# Altium footprint library IntegradedChips.PcbLib: 75 footprints (part 2 of 5)
Each footprint in its own frame and in the unit in brackets; x right, y up, seen from the top. Pads: shape width x height; smd on the part's side, far side on the other; paste and mask are expansions set on the pad; w line width, h text height; cw(c..) or ccw(c..) is an arc to the next point about the centre after c.
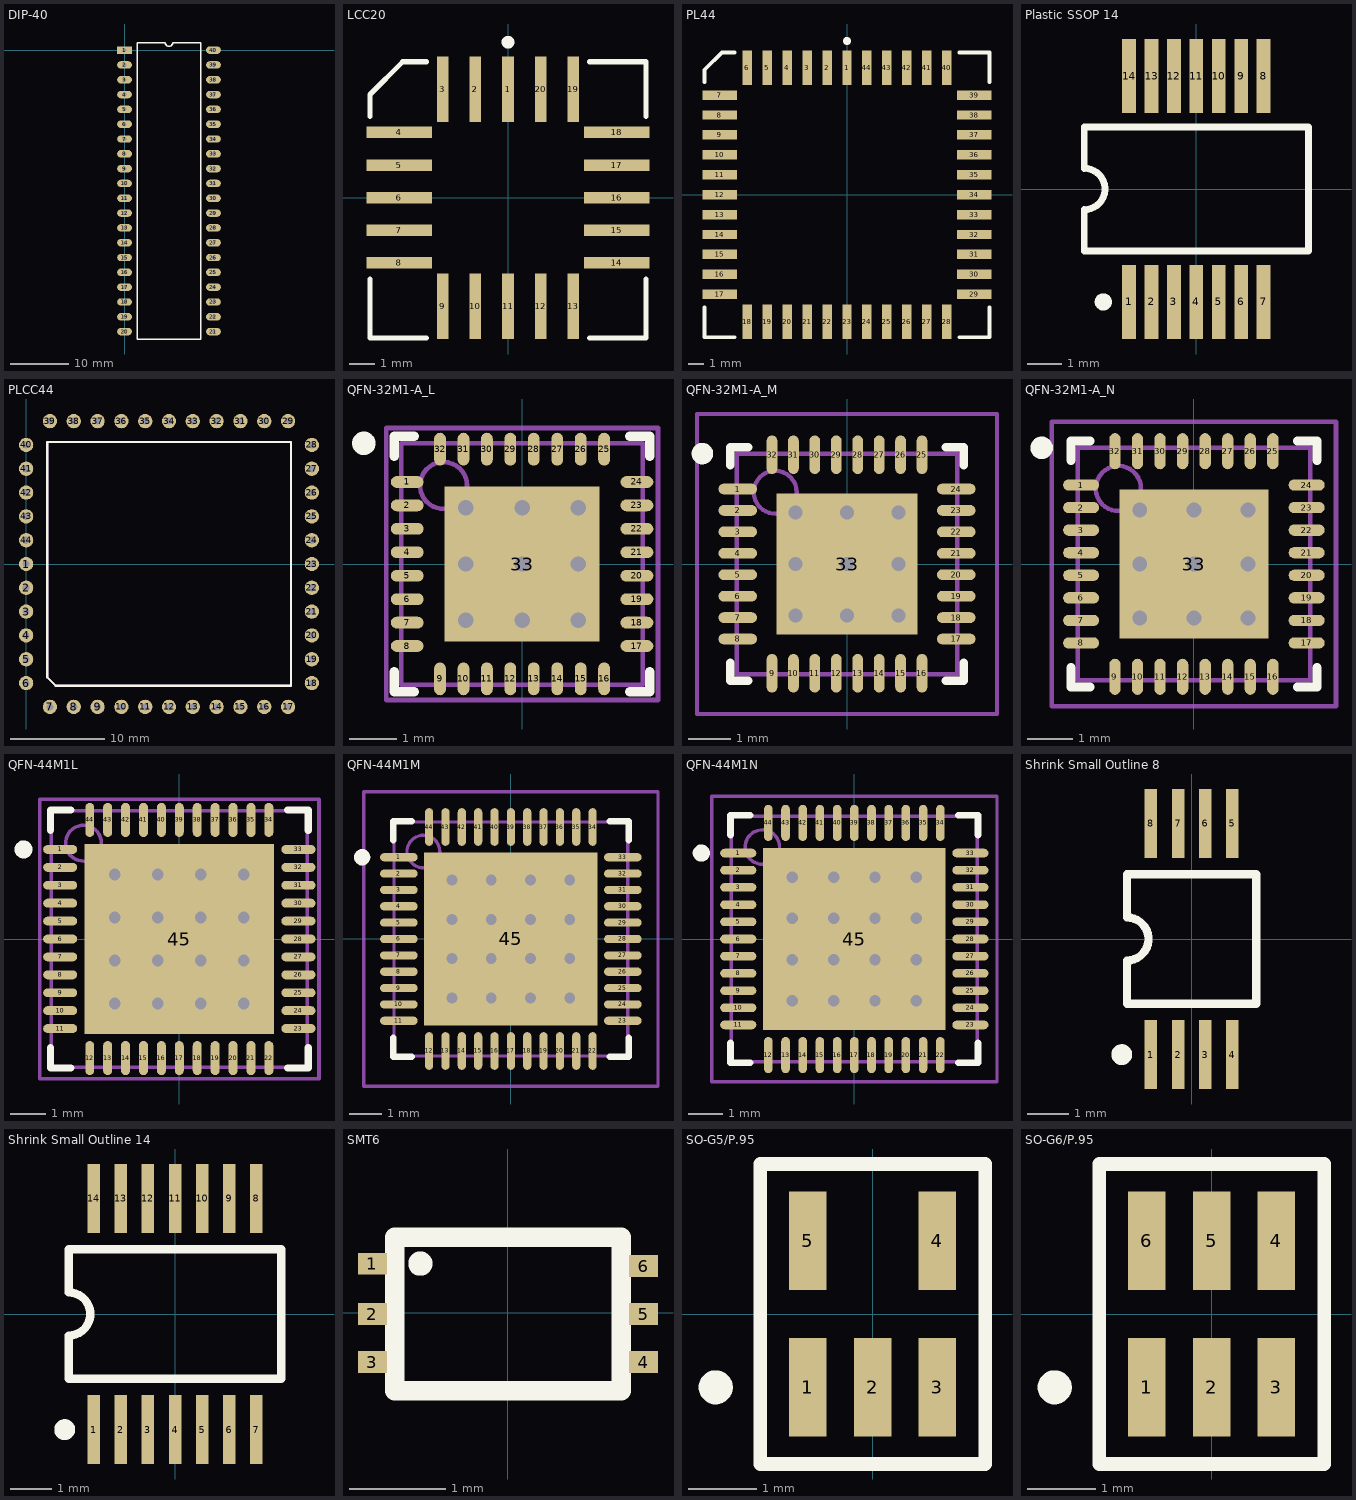
[diagram p1: the footprints below, top view; thin cyan lines are the x and y axes]

## DIP-40 [mm]
pads (40):
  rect 2.54x1.27 hole 0.635: 1(0,0)
  oval 2.54x1.27 hole 0.635: 2(0,-2.54) 3(0,-5.08) 4(0,-7.62) 5(0,-10.16) 6(0,-12.7) 7(0,-15.24) 8(0,-17.78) 9(0,-20.32) 10(0,-22.86) 11(0,-25.4) 12(0,-27.94) 13(0,-30.48) 14(0,-33.02) 15(0,-35.56) 16(0,-38.1) 17(0,-40.64) 18(0,-43.18) 19(0,-45.72) 20(0,-48.26) 21(15.24,-48.26) 22(15.24,-45.72) 23(15.24,-43.18) 24(15.24,-40.64) 25(15.24,-38.1) 26(15.24,-35.56) 27(15.24,-33.02) 28(15.24,-30.48) 29(15.24,-27.94) 30(15.24,-25.4) 31(15.24,-22.86) 32(15.24,-20.32) 33(15.24,-17.78) 34(15.24,-15.24) 35(15.24,-12.7) 36(15.24,-10.16) 37(15.24,-7.62) 38(15.24,-5.08) 39(15.24,-2.54) 40(15.24,0)
Top Overlay:
  lines w0.254: 2.159,-49.53 13.081,-49.53 13.081,1.27 8.255,1.27 cw(c7.62,1.27) 6.985,1.27 2.159,1.27 2.159,-49.53
3D body: height 4.3, standoff -2.68, extent 0.024,-50.53 15.724,2.27

## LCC20 [mm] "Leadless Chip Carrier; 20 Terminals; Body 8.9 x 8.9 mm"
height 2.03
pads (20):
  rect 0.45x2.55 smd: 1(0,4.225) 2(-1.27,4.225) 3(-2.54,4.225) 9(-2.54,-4.225) 10(-1.27,-4.225) 11(0,-4.225) 12(1.27,-4.225) 13(2.54,-4.225) 19(2.54,4.225) 20(1.27,4.225)
  rect 2.55x0.45 smd: 4(-4.225,2.54) 5(-4.225,1.27) 6(-4.225,0) 7(-4.225,-1.27) 8(-4.225,-2.54) 14(4.225,-2.54) 15(4.225,-1.27) 16(4.225,0) 17(4.225,1.27) 18(4.225,2.54)
Top Overlay:
  circle w0.25: c0,6.05 r0.125
  lines w0.2: -5.375,-3.165 -5.375,-5.463 -3.165,-5.463 ; -5.375,3.165 -5.375,4.012 -4.1,5.288 -3.165,5.288 ; 3.165,-5.463 5.375,-5.463 5.375,-3.165 ; 3.165,5.288 5.375,5.288 5.375,3.165

## PL44 [mm]
pads (44):
  rect 0.6x2.2 smd: 1(0,8.1) 2(-1.27,8.1) 3(-2.54,8.1) 4(-3.81,8.1) 5(-5.08,8.1) 6(-6.35,8.1) 18(-6.35,-8.1) 19(-5.08,-8.1) 20(-3.81,-8.1) 21(-2.54,-8.1) 22(-1.27,-8.1) 23(0,-8.1) 24(1.27,-8.1) 25(2.54,-8.1) 26(3.81,-8.1) 27(5.08,-8.1) 28(6.35,-8.1) 40(6.35,8.1) 41(5.08,8.1) 42(3.81,8.1) 43(2.54,8.1) 44(1.27,8.1)
  rect 2.2x0.6 smd: 7(-8.1,6.35) 8(-8.1,5.08) 9(-8.1,3.81) 10(-8.1,2.54) 11(-8.1,1.27) 12(-8.1,0) 13(-8.1,-1.27) 14(-8.1,-2.54) 15(-8.1,-3.81) 16(-8.1,-5.08) 17(-8.1,-6.35) 29(8.1,-6.35) 30(8.1,-5.08) 31(8.1,-3.81) 32(8.1,-2.54) 33(8.1,-1.27) 34(8.1,0) 35(8.1,1.27) 36(8.1,2.54) 37(8.1,3.81) 38(8.1,5.08) 39(8.1,6.35)
Top Overlay:
  circle w0.25: c0,9.8 r0.125
  lines w0.25: -9.075,-7.198 -9.075,-9.087 -7.185,-9.087 ; -9.075,7.172 -9.075,7.963 -7.975,9.063 -7.185,9.063 ; 7.185,-9.087 9.075,-9.087 9.075,-7.198 ; 7.185,9.063 9.075,9.063 9.075,7.172

## Plastic SSOP 14 [mm] "Plastic SSOP; 14 Leads; Body Width 5.3 mm; Pitch 0.65 mm"
height 2
pads (14):
  rect 0.4x2.15 smd: 1(-1.95,-3.275) 2(-1.3,-3.275) 3(-0.65,-3.275) 4(0,-3.275) 5(0.65,-3.275) 6(1.3,-3.275) 7(1.95,-3.275) 8(1.95,3.275) 9(1.3,3.275) 10(0.65,3.275) 11(0,3.275) 12(-0.65,3.275) 13(-1.3,3.275) 14(-1.95,3.275)
Top Overlay:
  circle w0.25: c-2.7,-3.275 r0.125
  lines w0.2: -3.25,-1.8 -3.25,-0.6 ccw(c-3.25,0) -3.25,0.6 -3.25,1.8 3.25,1.8 3.25,-1.8 -3.25,-1.8

## PLCC44 [mil]
height 173.23
pads (44):
  round 60 hole 30: 1(0,0) 2(0,-100) 3(0,-200) 4(0,-300) 5(0,-400) 6(0,-500) 7(100,-600) 8(200,-600) 9(300,-600) 10(400,-600) 11(500,-600) 12(600,-600) 13(700,-600) 14(800,-600) 15(900,-600) 16(1000,-600) 17(1100,-600) 18(1200,-500) 19(1200,-400) 20(1200,-300) 21(1200,-200) 22(1200,-100) 23(1200,0) 24(1200,100) 25(1200,200) 26(1200,300) 27(1200,400) 28(1200,500) 29(1100,600) 30(1000,600) 31(900,600) 32(800,600) 33(700,600) 34(600,600) 35(500,600) 36(400,600) 37(300,600) 38(200,600) 39(100,600) 40(0,500) 41(0,400) 42(0,300) 43(0,200) 44(0,100)
Top Overlay:
  lines w10: 88.61,-475.93 88.61,512.26 1112.24,512.26 1112.24,-511.36 124.05,-511.36 88.61,-475.93
Mechanical 1:
  lines w10: 88.61,-475.93 88.61,512.26 1112.24,512.26 1112.24,-511.36 124.05,-511.36 88.61,-475.93
3D body: height 173.23, standoff 39.37, extent 88.59,-511.38 1112.26,512.28

## QFN-32M1-A_L [mm] "QFN, 32-Leads, Body 5x5mm, Pitch 0.5mm, IPC High Density"
height 1
pads (33):
  oval 0.7x0.25 smd: 1(-2.45,1.75) 2(-2.45,1.25) 3(-2.45,0.75) 4(-2.45,0.25) 5(-2.45,-0.25) 6(-2.45,-0.75) 7(-2.45,-1.25) 8(-2.45,-1.75) 17(2.45,-1.75) 18(2.45,-1.25) 19(2.45,-0.75) 20(2.45,-0.25) 21(2.45,0.25) 22(2.45,0.75) 23(2.45,1.25) 24(2.45,1.75)
  oval 0.25x0.7 smd: 9(-1.75,-2.45) 10(-1.25,-2.45) 11(-0.75,-2.45) 12(-0.25,-2.45) 13(0.25,-2.45) 14(0.75,-2.45) 15(1.25,-2.45) 16(1.75,-2.45) 25(1.75,2.45) 26(1.25,2.45) 27(0.75,2.45) 28(0.25,2.45) 29(-0.25,2.45) 30(-0.75,2.45) 31(-1.25,2.45) 32(-1.75,2.45)
  rect 3.3x3.3 smd: 33(0,0)
via 1.2,-1.2 diameter 0.66 hole 0.33
via 0,-1.2 diameter 0.66 hole 0.33
via -1.2,-1.2 diameter 0.66 hole 0.33
via 1.2,0 diameter 0.66 hole 0.33
via 0,0 diameter 0.66 hole 0.33
via -1.2,0 diameter 0.66 hole 0.33
via 1.2,1.2 diameter 0.66 hole 0.33
via 0,1.2 diameter 0.66 hole 0.33
via -1.2,1.2 diameter 0.66 hole 0.33
Top Overlay:
  circle w0.25: c-3.375,2.575 r0.125
  lines w0.2: -2.725,-2.3 -2.725,-2.725 -2.3,-2.725 ; -2.725,2.3 -2.725,2.725 -2.3,2.725 ; 2.3,-2.725 2.725,-2.725 2.725,-2.3 ; 2.3,2.725 2.725,2.725 2.725,2.3
Mechanical 13:
  circle w0.1: c-1.675,1.675 r0.5
  lines w0.1: -2.575,-2.575 2.575,-2.575 2.575,2.575 -2.575,2.575 -2.575,-2.575
Mechanical 15:
  lines w0.1: -0.5,0 0.5,0 ; 0,-0.5 0,0.5 ; -2.9,-2.9 2.9,-2.9 2.9,2.9 -2.9,2.9 -2.9,-2.9
3D body: height 1, standoff 0, extent -2.575,-2.575 2.575,2.575

## QFN-32M1-A_M [mm] "QFN, 32-Leads, Body 5x5mm, Pitch 0.5mm, IPC Low Density"
height 1
pads (33):
  oval 0.9x0.25 smd: 1(-2.55,1.75) 2(-2.55,1.25) 3(-2.55,0.75) 4(-2.55,0.25) 5(-2.55,-0.25) 6(-2.55,-0.75) 7(-2.55,-1.25) 8(-2.55,-1.75) 17(2.55,-1.75) 18(2.55,-1.25) 19(2.55,-0.75) 20(2.55,-0.25) 21(2.55,0.25) 22(2.55,0.75) 23(2.55,1.25) 24(2.55,1.75)
  oval 0.25x0.9 smd: 9(-1.75,-2.55) 10(-1.25,-2.55) 11(-0.75,-2.55) 12(-0.25,-2.55) 13(0.25,-2.55) 14(0.75,-2.55) 15(1.25,-2.55) 16(1.75,-2.55) 25(1.75,2.55) 26(1.25,2.55) 27(0.75,2.55) 28(0.25,2.55) 29(-0.25,2.55) 30(-0.75,2.55) 31(-1.25,2.55) 32(-1.75,2.55)
  rect 3.3x3.3 smd: 33(0,0)
via 1.2,-1.2 diameter 0.66 hole 0.33
via 0,-1.2 diameter 0.66 hole 0.33
via -1.2,-1.2 diameter 0.66 hole 0.33
via 1.2,0 diameter 0.66 hole 0.33
via 0,0 diameter 0.66 hole 0.33
via -1.2,0 diameter 0.66 hole 0.33
via 1.2,1.2 diameter 0.66 hole 0.33
via 0,1.2 diameter 0.66 hole 0.33
via -1.2,1.2 diameter 0.66 hole 0.33
Top Overlay:
  circle w0.25: c-3.375,2.575 r0.125
  lines w0.2: -2.725,-2.3 -2.725,-2.725 -2.3,-2.725 ; -2.725,2.3 -2.725,2.725 -2.3,2.725 ; 2.3,-2.725 2.725,-2.725 2.725,-2.3 ; 2.3,2.725 2.725,2.725 2.725,2.3
Mechanical 13:
  circle w0.1: c-1.675,1.675 r0.5
  lines w0.1: -2.575,-2.575 2.575,-2.575 2.575,2.575 -2.575,2.575 -2.575,-2.575
Mechanical 15:
  lines w0.1: -0.5,0 0.5,0 ; 0,-0.5 0,0.5 ; -3.5,-3.5 3.5,-3.5 3.5,3.5 -3.5,3.5 -3.5,-3.5
3D body: height 1, standoff 0, extent -2.575,-2.575 2.575,2.575

## QFN-32M1-A_N [mm] "QFN, 32-Leads, Body 5x5mm, Pitch 0.5mm, IPC Medium Density"
height 1
pads (33):
  oval 0.8x0.25 smd: 1(-2.5,1.75) 2(-2.5,1.25) 3(-2.5,0.75) 4(-2.5,0.25) 5(-2.5,-0.25) 6(-2.5,-0.75) 7(-2.5,-1.25) 8(-2.5,-1.75) 17(2.5,-1.75) 18(2.5,-1.25) 19(2.5,-0.75) 20(2.5,-0.25) 21(2.5,0.25) 22(2.5,0.75) 23(2.5,1.25) 24(2.5,1.75)
  oval 0.25x0.8 smd: 9(-1.75,-2.5) 10(-1.25,-2.5) 11(-0.75,-2.5) 12(-0.25,-2.5) 13(0.25,-2.5) 14(0.75,-2.5) 15(1.25,-2.5) 16(1.75,-2.5) 25(1.75,2.5) 26(1.25,2.5) 27(0.75,2.5) 28(0.25,2.5) 29(-0.25,2.5) 30(-0.75,2.5) 31(-1.25,2.5) 32(-1.75,2.5)
  rect 3.3x3.3 smd: 33(0,0)
via 1.2,-1.2 diameter 0.66 hole 0.33
via 0,-1.2 diameter 0.66 hole 0.33
via -1.2,-1.2 diameter 0.66 hole 0.33
via 1.2,0 diameter 0.66 hole 0.33
via 0,0 diameter 0.66 hole 0.33
via -1.2,0 diameter 0.66 hole 0.33
via 1.2,1.2 diameter 0.66 hole 0.33
via 0,1.2 diameter 0.66 hole 0.33
via -1.2,1.2 diameter 0.66 hole 0.33
Top Overlay:
  circle w0.25: c-3.375,2.575 r0.125
  lines w0.2: -2.725,-2.3 -2.725,-2.725 -2.3,-2.725 ; -2.725,2.3 -2.725,2.725 -2.3,2.725 ; 2.3,-2.725 2.725,-2.725 2.725,-2.3 ; 2.3,2.725 2.725,2.725 2.725,2.3
Mechanical 13:
  circle w0.1: c-1.675,1.675 r0.5
  lines w0.1: -2.575,-2.575 2.575,-2.575 2.575,2.575 -2.575,2.575 -2.575,-2.575
Mechanical 15:
  lines w0.1: -0.5,0 0.5,0 ; 0,-0.5 0,0.5 ; -3.15,-3.15 3.15,-3.15 3.15,3.15 -3.15,3.15 -3.15,-3.15
3D body: height 1, standoff 0, extent -2.575,-2.575 2.575,2.575

## QFN-44M1L [mm] "QFN, 44-Leads, Body 7x7mm, Pitch 0.5mm, IPC High Density"
height 1
pads (45):
  oval 0.95x0.25 smd: 1(-3.325,2.5) 2(-3.325,2) 3(-3.325,1.5) 4(-3.325,1) 5(-3.325,0.5) 6(-3.325,0) 7(-3.325,-0.5) 8(-3.325,-1) 9(-3.325,-1.5) 10(-3.325,-2) 11(-3.325,-2.5) 23(3.325,-2.5) 24(3.325,-2) 25(3.325,-1.5) 26(3.325,-1) 27(3.325,-0.5) 28(3.325,0) 29(3.325,0.5) 30(3.325,1) 31(3.325,1.5) 32(3.325,2) 33(3.325,2.5)
  oval 0.25x0.95 smd: 12(-2.5,-3.325) 13(-2,-3.325) 14(-1.5,-3.325) 15(-1,-3.325) 16(-0.5,-3.325) 17(0,-3.325) 18(0.5,-3.325) 19(1,-3.325) 20(1.5,-3.325) 21(2,-3.325) 22(2.5,-3.325) 34(2.5,3.325) 35(2,3.325) 36(1.5,3.325) 37(1,3.325) 38(0.5,3.325) 39(0,3.325) 40(-0.5,3.325) 41(-1,3.325) 42(-1.5,3.325) 43(-2,3.325) 44(-2.5,3.325)
  rect 5.3x5.3 smd: 45(0,0)
via 1.8,-1.8 diameter 0.66 hole 0.33
via 0.6,-1.8 diameter 0.66 hole 0.33
via -0.6,-1.8 diameter 0.66 hole 0.33
via -1.8,-1.8 diameter 0.66 hole 0.33
via 1.8,-0.6 diameter 0.66 hole 0.33
via 0.6,-0.6 diameter 0.66 hole 0.33
via -0.6,-0.6 diameter 0.66 hole 0.33
via -1.8,-0.6 diameter 0.66 hole 0.33
via 1.8,0.6 diameter 0.66 hole 0.33
via 0.6,0.6 diameter 0.66 hole 0.33
via -0.6,0.6 diameter 0.66 hole 0.33
via -1.8,0.6 diameter 0.66 hole 0.33
via 1.8,1.8 diameter 0.66 hole 0.33
via 0.6,1.8 diameter 0.66 hole 0.33
via -0.6,1.8 diameter 0.66 hole 0.33
via -1.8,1.8 diameter 0.66 hole 0.33
Top Overlay:
  circle w0.25: c-4.35,2.5 r0.125
  lines w0.2: -3.6,-3.025 -3.6,-3.6 -3.025,-3.6 ; -3.6,3.025 -3.6,3.6 -3.025,3.6 ; 3.025,-3.6 3.6,-3.6 3.6,-3.025 ; 3.025,3.6 3.6,3.6 3.6,3.025
Mechanical 13:
  circle w0.1: c-2.675,2.675 r0.5
  lines w0.1: -3.575,-3.575 3.575,-3.575 3.575,3.575 -3.575,3.575 -3.575,-3.575
Mechanical 15:
  lines w0.1: -0.5,0 0.5,0 ; 0,-0.5 0,0.5 ; -3.9,-3.9 3.9,-3.9 3.9,3.9 -3.9,3.9 -3.9,-3.9
3D body: height 1, standoff 0, extent -3.575,-3.575 3.575,3.575

## QFN-44M1M [mm] "QFN, 44-Leads, Body 7x7mm, Pitch 0.5mm, IPC Low Density"
height 1
pads (45):
  oval 1.15x0.25 smd: 1(-3.425,2.5) 2(-3.425,2) 3(-3.425,1.5) 4(-3.425,1) 5(-3.425,0.5) 6(-3.425,0) 7(-3.425,-0.5) 8(-3.425,-1) 9(-3.425,-1.5) 10(-3.425,-2) 11(-3.425,-2.5) 23(3.425,-2.5) 24(3.425,-2) 25(3.425,-1.5) 26(3.425,-1) 27(3.425,-0.5) 28(3.425,0) 29(3.425,0.5) 30(3.425,1) 31(3.425,1.5) 32(3.425,2) 33(3.425,2.5)
  oval 0.25x1.15 smd: 12(-2.5,-3.425) 13(-2,-3.425) 14(-1.5,-3.425) 15(-1,-3.425) 16(-0.5,-3.425) 17(0,-3.425) 18(0.5,-3.425) 19(1,-3.425) 20(1.5,-3.425) 21(2,-3.425) 22(2.5,-3.425) 34(2.5,3.425) 35(2,3.425) 36(1.5,3.425) 37(1,3.425) 38(0.5,3.425) 39(0,3.425) 40(-0.5,3.425) 41(-1,3.425) 42(-1.5,3.425) 43(-2,3.425) 44(-2.5,3.425)
  rect 5.3x5.3 smd: 45(0,0)
via 1.8,-1.8 diameter 0.66 hole 0.33
via 0.6,-1.8 diameter 0.66 hole 0.33
via -0.6,-1.8 diameter 0.66 hole 0.33
via -1.8,-1.8 diameter 0.66 hole 0.33
via 1.8,-0.6 diameter 0.66 hole 0.33
via 0.6,-0.6 diameter 0.66 hole 0.33
via -0.6,-0.6 diameter 0.66 hole 0.33
via -1.8,-0.6 diameter 0.66 hole 0.33
via 1.8,0.6 diameter 0.66 hole 0.33
via 0.6,0.6 diameter 0.66 hole 0.33
via -0.6,0.6 diameter 0.66 hole 0.33
via -1.8,0.6 diameter 0.66 hole 0.33
via 1.8,1.8 diameter 0.66 hole 0.33
via 0.6,1.8 diameter 0.66 hole 0.33
via -0.6,1.8 diameter 0.66 hole 0.33
via -1.8,1.8 diameter 0.66 hole 0.33
Top Overlay:
  circle w0.25: c-4.55,2.5 r0.125
  lines w0.2: -3.6,-3.025 -3.6,-3.6 -3.025,-3.6 ; -3.6,3.025 -3.6,3.6 -3.025,3.6 ; 3.025,-3.6 3.6,-3.6 3.6,-3.025 ; 3.025,3.6 3.6,3.6 3.6,3.025
Mechanical 13:
  circle w0.1: c-2.675,2.675 r0.5
  lines w0.1: -3.575,-3.575 3.575,-3.575 3.575,3.575 -3.575,3.575 -3.575,-3.575
Mechanical 15:
  lines w0.1: -0.5,0 0.5,0 ; 0,-0.5 0,0.5 ; -4.5,-4.5 4.5,-4.5 4.5,4.5 -4.5,4.5 -4.5,-4.5
3D body: height 1, standoff 0, extent -3.575,-3.575 3.575,3.575

## QFN-44M1N [mm] "QFN, 44-Leads, Body 7x7mm, Pitch 0.5mm, IPC Medium Density"
height 1
pads (45):
  oval 1.05x0.25 smd: 1(-3.375,2.5) 2(-3.375,2) 3(-3.375,1.5) 4(-3.375,1) 5(-3.375,0.5) 6(-3.375,0) 7(-3.375,-0.5) 8(-3.375,-1) 9(-3.375,-1.5) 10(-3.375,-2) 11(-3.375,-2.5) 23(3.375,-2.5) 24(3.375,-2) 25(3.375,-1.5) 26(3.375,-1) 27(3.375,-0.5) 28(3.375,0) 29(3.375,0.5) 30(3.375,1) 31(3.375,1.5) 32(3.375,2) 33(3.375,2.5)
  oval 0.25x1.05 smd: 12(-2.5,-3.375) 13(-2,-3.375) 14(-1.5,-3.375) 15(-1,-3.375) 16(-0.5,-3.375) 17(0,-3.375) 18(0.5,-3.375) 19(1,-3.375) 20(1.5,-3.375) 21(2,-3.375) 22(2.5,-3.375) 34(2.5,3.375) 35(2,3.375) 36(1.5,3.375) 37(1,3.375) 38(0.5,3.375) 39(0,3.375) 40(-0.5,3.375) 41(-1,3.375) 42(-1.5,3.375) 43(-2,3.375) 44(-2.5,3.375)
  rect 5.3x5.3 smd: 45(0,0)
via -1.8,1.8 diameter 0.66 hole 0.33
via -0.6,1.8 diameter 0.66 hole 0.33
via 0.6,1.8 diameter 0.66 hole 0.33
via 1.8,1.8 diameter 0.66 hole 0.33
via -1.8,0.6 diameter 0.66 hole 0.33
via -0.6,0.6 diameter 0.66 hole 0.33
via 0.6,0.6 diameter 0.66 hole 0.33
via 1.8,0.6 diameter 0.66 hole 0.33
via -1.8,-0.6 diameter 0.66 hole 0.33
via -0.6,-0.6 diameter 0.66 hole 0.33
via 0.6,-0.6 diameter 0.66 hole 0.33
via 1.8,-0.6 diameter 0.66 hole 0.33
via -1.8,-1.8 diameter 0.66 hole 0.33
via -0.6,-1.8 diameter 0.66 hole 0.33
via 0.6,-1.8 diameter 0.66 hole 0.33
via 1.8,-1.8 diameter 0.66 hole 0.33
Top Overlay:
  circle w0.25: c-4.45,2.5 r0.125
  lines w0.2: -3.6,-3.025 -3.6,-3.6 -3.025,-3.6 ; -3.6,3.025 -3.6,3.6 -3.025,3.6 ; 3.025,-3.6 3.6,-3.6 3.6,-3.025 ; 3.025,3.6 3.6,3.6 3.6,3.025
Mechanical 13:
  circle w0.1: c-2.675,2.675 r0.5
  lines w0.1: -3.575,-3.575 -3.575,3.575 3.575,3.575 3.575,-3.575 -3.575,-3.575
Mechanical 15:
  lines w0.1: -0.5,0 0.5,0 ; 0,-0.5 0,0.5 ; -4.15,-4.15 -4.15,4.15 4.15,4.15 4.15,-4.15 -4.15,-4.15
3D body: height 1, standoff 0, extent -3.575,-3.575 3.575,3.575

## Shrink Small Outline 8 [mm] "Shrink Small Outline; 8 Leads; Body Width 4.4 mm; Pitch 0.65 mm"
height 1.2
pads (8):
  rect 0.3x1.65 smd: 1(-0.975,-2.775) 2(-0.325,-2.775) 3(0.325,-2.775) 4(0.975,-2.775) 5(0.975,2.775) 6(0.325,2.775) 7(-0.325,2.775) 8(-0.975,2.775)
Top Overlay:
  circle w0.25: c-1.675,-2.775 r0.125
  lines w0.2: -1.55,-1.55 1.55,-1.55 1.55,1.55 -1.55,1.55 -1.55,0.517 cw(c-1.55,0) -1.55,-0.517 -1.55,-1.55

## Shrink Small Outline 14 [mm] "Shrink Small Outline; 14 Leads; Body Width 4.4 mm; Pitch 0.65 mm"
height 1.2
pads (14):
  rect 0.3x1.65 smd: 1(-1.95,-2.775) 2(-1.3,-2.775) 3(-0.65,-2.775) 4(0,-2.775) 5(0.65,-2.775) 6(1.3,-2.775) 7(1.95,-2.775) 8(1.95,2.775) 9(1.3,2.775) 10(0.65,2.775) 11(0,2.775) 12(-0.65,2.775) 13(-1.3,2.775) 14(-1.95,2.775)
Top Overlay:
  circle w0.25: c-2.65,-2.775 r0.125
  lines w0.2: -2.55,-1.55 -2.55,-0.517 ccw(c-2.55,0) -2.55,0.517 -2.55,1.55 2.55,1.55 2.55,-1.55 -2.55,-1.55

## SMT6 [mm] "For BH1750FVI"
height 0.75
pads (6):
  rect 0.3x0.225 smd: 1(-1.412,0.513) 2(-1.412,-0.012) 3(-1.412,-0.512) 4(1.413,-0.512) 5(1.413,-0.012) 6(1.413,0.488)
Top Overlay:
  circle w0.203: c-0.913,0.513 r0.025
  lines w0.203: -1.182,-0.812 1.181,-0.812 1.181,0.788 -1.182,0.788 -1.182,-0.812
3D body: height 0.75, standoff 0.15, extent -1.283,-0.914 1.282,0.889

## SO-G5/P.95 [mm]
pads (5):
  rect 0.55x1.45 smd: 1(-0.95,-1.075) 2(0,-1.075) 3(0.95,-1.075) 4(0.95,1.075) 5(-0.95,1.075)
Top Overlay:
  circle w0.25: c-2.3,-1.075 r0.125
  lines w0.2: -1.65,-2.2 -1.65,2.2 1.65,2.2 1.65,-2.2 -1.65,-2.2
3D body: height 3, standoff 0.01, extent -1.649,-2.199 1.649,2.199

## SO-G6/P.95 [mm]
pads (6):
  rect 0.55x1.45 smd: 1(-0.95,-1.075) 2(0,-1.075) 3(0.95,-1.075) 4(0.95,1.075) 5(0,1.075) 6(-0.95,1.075)
Top Overlay:
  circle w0.25: c-2.3,-1.075 r0.125
  lines w0.2: -1.65,-2.2 -1.65,2.2 1.65,2.2 1.65,-2.2 -1.65,-2.2